# Altium schematic symbol library Schlib1.SchLib: 27 symbols
Pins are listed as number, name and electrical type; pins without a type are passive.

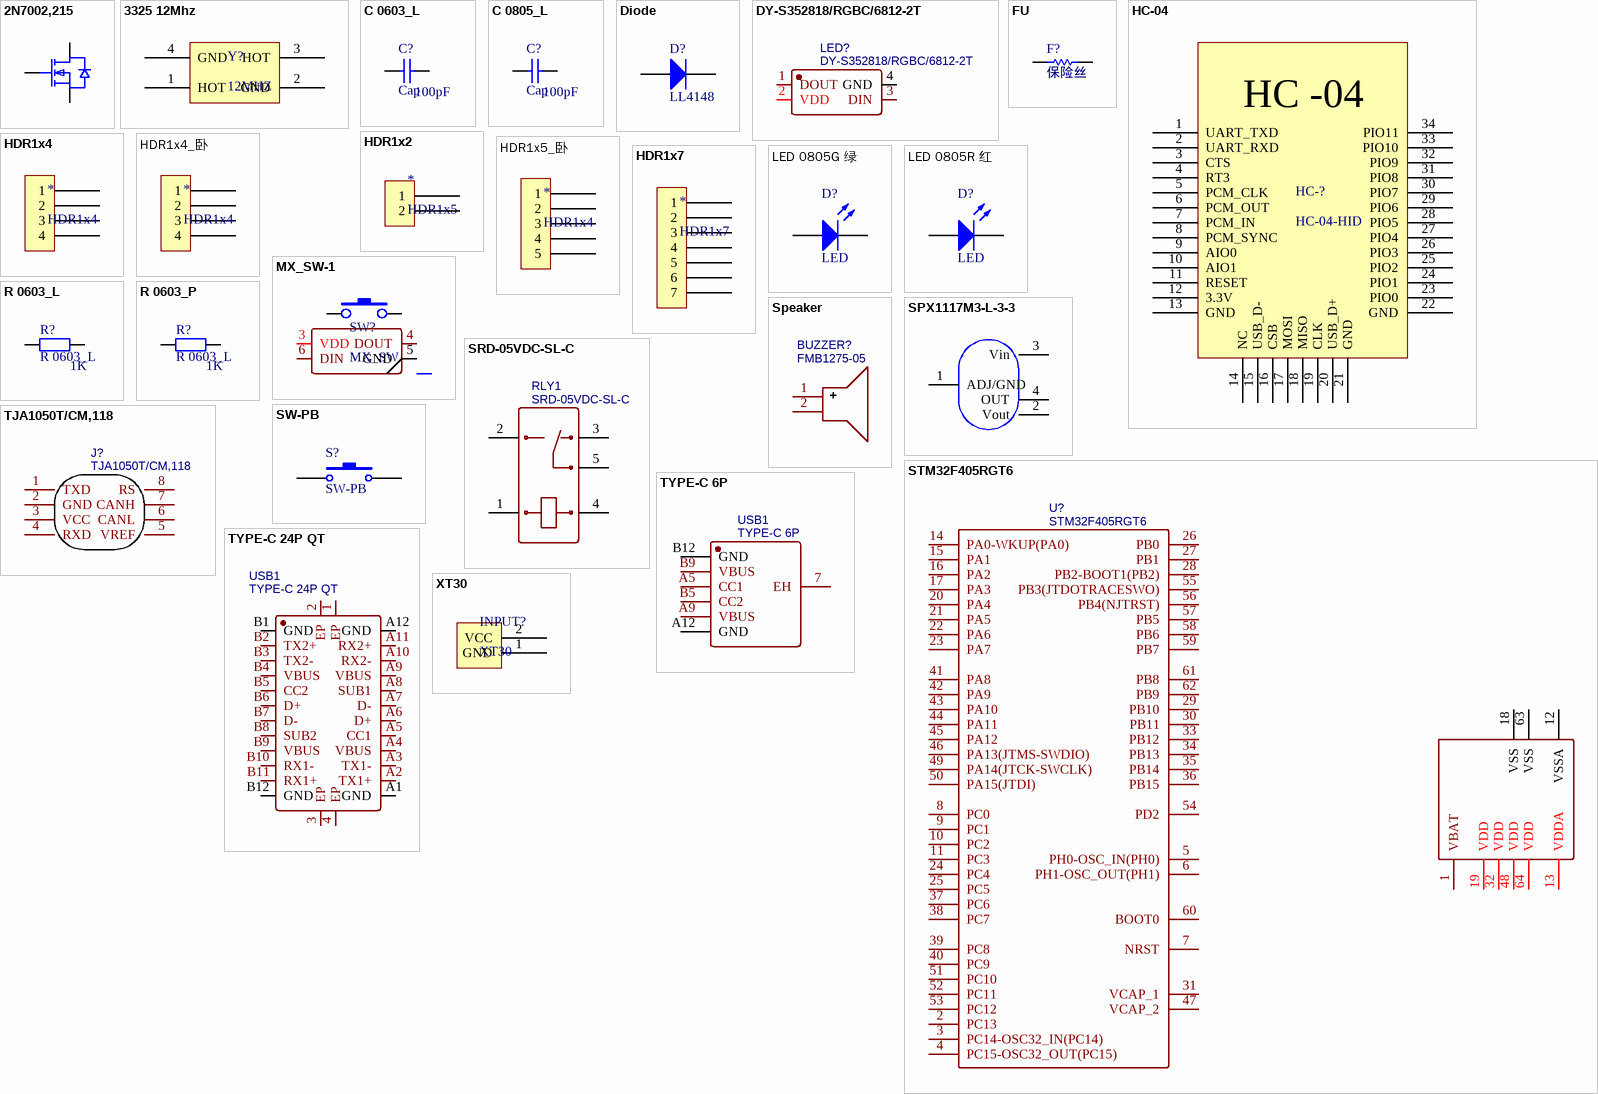
[diagram p0: symbols 2N7002,215 to XT30]

## 2N7002,215
designator Q?
Manufacturer: Nexperia(安世); Symbol: 2N7002,215; Add into BOM: yes; Type: N沟道; Drain Source Voltage (Vdss): 60V; Continuous Drain Current (Id): 300mA; Power Dissipation (Pd): 830mW; Drain Source On Resistance (RDS(on)@Vgs,Id): 5Ω@10V,500mA; Gate Threshold Voltage (Vgs(th)@Id): 2.5V@250A; Device: 2N7002,215; LCSC Part Name: N沟道 60V 300mA; Supplier Part: C65189; Manufacturer Part: 2N7002,215; Supplier Footprint: SOT-23(SOT-23-3); JLCPCB Part Class: Extended Part; Datasheet: https://atta.szlcsc.com/upload/public/pdf/source/20170103/1483439882638.pdf; Supplier: LCSC; Convert to PCB: yes
footprint AO3400A (SOT-23_L2.9-W1.3-P1.90-LS2.4-BR)
pins: 1 G, 2 S, 3 D

## 3325 12Mhz
designator Y?, comment 12MHZ
3325 12MHZ 无源晶振
footprint SMD-3225_4P
pins: 1 HOT, 2 GND, 3 HOT, 4 GND

## C 0603_L
designator C?, comment Cap  value 100pF
Capacitor; Published: 8-Jun-2000; LatestRevisionDate: 17-Jul-2002; LatestRevisionNote: Re-released for DXP Platform.; PackageReference: RAD-0.3; Publisher: Altium Limited; PackageDescription: Radial Cap, Thru-Hole; 2 Leads; 0.3 in Pin Spacing
footprint C 0603_L (无极性贴片电容                                       淘宝ID:黄晶宝石)
pins: 1, 2

## C 0805_L
designator C?, comment Cap  value 100pF
Capacitor; Published: 8-Jun-2000; LatestRevisionDate: 17-Jul-2002; LatestRevisionNote: Re-released for DXP Platform.; PackageReference: RAD-0.3; Publisher: Altium Limited; PackageDescription: Radial Cap, Thru-Hole; 2 Leads; 0.3 in Pin Spacing
footprint C 0805_L (无极性贴片电容                                        淘宝ID:黄晶宝石)
pins: 1, 2

## Diode
designator D?, comment LL4148
Default Diode; Published: 8-Jun-2000; LatestRevisionDate: 17-Jul-2002; LatestRevisionNote: Re-released for DXP Platform.; PackageVersion: Sep-1996; PackageReference: SMC; Publisher: Altium Limited; PackageDescription: DO-214-AB/SMC; 2 C-Bend Leads; Body 7.9 x 5.9 mm, inc. leads (LxW); Code_JEDEC: DO-214-AB
footprint LL-34_L3.7-W1.6-RD
pins: 1 A, 2 K

## DY-S352818/RGBC/6812-2T
designator LED?
BOM_Manufacturer: TONYU; Contributor: LCSC; BOM_Supplier: LCSC; BOM_Supplier Part: C524051; BOM_Manufacturer Part: DY-S352818/RGBC/6812-2T; BOM_JLCPCB Part Class: Extended Part; spicePre: L; spiceSymbolName: DY-S352818/RGBC/6812-2T
footprint LED3528
pins: 1 DOUT, 2 VDD, 3 DIN, 4 GND

## FU
designator F?, comment 保险丝
Published: 8-Jun-2000; LatestRevisionDate: 17-Jul-2002; LatestRevisionNote: Re-released for DXP Platform.; PackageReference: AXIAL-0.3; Publisher: Altium Limited; PackageDescription: Axial Device, Thru-Hole; 2 Leads; 0.3 in Pin Spacing
footprint FU 1206 (贴片保险丝)
pins: 1, 2

## HC-04
designator HC-?, comment HC-04-HID
footprint HC-04 (串口蓝牙模块)
pins: 1 UART_TXD, 2 UART_RXD, 3 CTS, 4 RT3, 5 PCM_CLK, 6 PCM_OUT, 7 PCM_IN, 8 PCM_SYNC, 9 AIO0, 10 AIO1, 11 RESET, 12 3.3V, 13 GND, 14 NC, 15 USB_D-, 16 CSB, 17 MOSI, 18 MISO, 19 CLK, 20 USB_D+, 21 GND, 22 GND, 23 PIO0, 24 PIO1, 25 PIO2, 26 PIO3, 27 PIO4, 28 PIO5, 29 PIO6, 30 PIO7, 31 PIO8, 32 PIO9, 33 PIO10, 34 PIO11
text: HC -04

## HDR1x2
designator *, comment HDR1x5
footprint GH1.25-立贴-2P
pins: 1, 2

## HDR1x4
designator *
footprint GH1.25-立贴-4P
pins: 1, 2, 3, 4

## HDR1x4_卧
designator *, comment HDR1x4
footprint MX 1.25-WS-4P (长：10.15mm，宽：4.2mm，高：3.4mm)
pins: 1, 2, 3, 4

## HDR1x5_卧
designator *, comment HDR1x4
footprint MX 1.25-WS-5P (长：11.4mm，宽：4.2mm，高：3.4mm)
pins: 1, 2, 3, 4, 5

## HDR1x7
designator *
footprint GH1.25-立贴-7P
pins: 1, 2, 3, 4, 5, 6, 7

## LED 0805G 绿
designator D?, comment LED
Typical INFRARED GaAs LED; Published: 8-Jun-2000; LatestRevisionDate: 08-Jul-2005; LatestRevisionNote: Mech Layer 1 removed.; PackageReference: LED-0; Publisher: Altium Limited; PackageDescription: LED; 2 Leads
footprint LED 0805G (绿色0805LED                              淘宝ID:黄晶宝石)
pins: 1 A, 2 K

## LED 0805R 红
designator D?, comment LED
Typical INFRARED GaAs LED; Published: 8-Jun-2000; LatestRevisionDate: 08-Jul-2005; LatestRevisionNote: Mech Layer 1 removed.; PackageReference: LED-0; Publisher: Altium Limited; PackageDescription: LED; 2 Leads
footprint LED 0805R (红色0805LED                                       淘宝ID:黄晶宝石)
pins: 1 A, 2 K

## MX_SW-1
designator SW?, comment MX_SW
footprint MX_SW-1 (with Fixation pins  1-Pole w/Diode)
pins: 1, 2, 3 VDD, 4 DOUT, 5 GND, 6 DIN

## R 0603_L
designator R?  value 1K
Resistor; Published: 8-Jun-2000; LatestRevisionDate: 17-Jul-2002; LatestRevisionNote: Re-released for DXP Platform.; PackageReference: AXIAL-0.4; Publisher: Altium Limited; PackageDescription: Axial Device, Thru-Hole; 2 Leads; 0.4 in Pin Spacing
footprint R 0603_L (1/10W贴片电阻                 淘宝ID:黄晶宝石)
pins: 1, 2

## R 0603_P
designator R?, comment R 0603_L  value 1K
Resistor; Published: 8-Jun-2000; LatestRevisionDate: 17-Jul-2002; LatestRevisionNote: Re-released for DXP Platform.; PackageReference: AXIAL-0.4; Publisher: Altium Limited; PackageDescription: Axial Device, Thru-Hole; 2 Leads; 0.4 in Pin Spacing
footprint 0603P
pins: 1, 2

## Speaker
designator BUZZER?, comment FMB1275-05
BOM_Manufacturer: FUET; Contributor: LCSC; Frequency: 2300Hz; BOM_Supplier: LCSC; BOM_Supplier Part: C482357; BOM_Manufacturer Part: FMB1275-05; BOM_JLCPCB Part Class: Extended Part; spicePre: B; spiceSymbolName: FMB1275-05
footprint Speaker
pins: 1 +, 2 -

## SPX1117M3-L-3-3
designator U?
Manufacturer: UTC(友顺); Symbol: LM317G-AA3-R; Add into BOM: yes; Output Type: 可调; Output Polarity: 正; Number of Outputs: 1; Maximum Input Voltage: 40V; Output Voltage: 1.3V~37V; Dropout Voltage: 5V@(10mA); Output Current: 1A; Device: LM317G-AA3-R; LCSC Part Name: Vin=40V Vout=1.3V~37V 1A; Supplier Part: C19651; Manufacturer Part: LM317G-AA3-R; Supplier Footprint: SOT-223; JLCPCB Part Class: Extended Part; Datasheet: https://atta.szlcsc.com/upload/public/pdf/source/20160416/1460799387250.pdf; Supplier: LCSC; Convert to PCB: yes
footprint SPX1117M3-L-3-3/TR (SOT-223-3_L6.5-W3.4-P2.30-LS7.0-BR)
pins: 1 ADJ/GND, 2 Vout, 3 Vin, 4 OUT

## SRD-05VDC-SL-C
designator RLY1
BOM_Manufacturer: SONGLE; BOM_Supplier: LCSC; BOM_Manufacturer Part: SRD-05VDC-SL-C; BOM_Supplier Part: C35449; BOM_JLCPCB Part Class: Extended Part; spicePre: R; spiceSymbolName: SRD-05VDC-SL-C
footprint SRD-05VDC-SL-C
pins: 1, 2, 3, 4, 5

## STM32F405RGT6
designator U?
BOM_Manufacturer: ST; subpart_no: 1; tags: STM32; BOM_Supplier Part: C15742; BOM_Supplier: LCSC; BOM_Manufacturer Part: STM32F405RGT6; image: http://image.lceda.cn/szlcsc/C15742.jpg; BOM_JLCPCB Part Class: Extended Part; spicePre: U; spiceSymbolName: STM32F405RGT6
footprint STM32F405RGT6 (LQFP-64_L10.0-W10.0-P0.50-LS12.0-BL)
pins: 1 VBAT, 2 PC13, 3 PC14-OSC32_IN(PC14), 4 PC15-OSC32_OUT(PC15), 5 PH0-OSC_IN(PH0), 6 PH1-OSC_OUT(PH1), 7 NRST, 8 PC0, 9 PC1, 10 PC2, 11 PC3, 12 VSSA, 13 VDDA, 14 PA0-WKUP(PA0), 15 PA1, 16 PA2, 17 PA3, 18 VSS, 19 VDD, 20 PA4, 21 PA5, 22 PA6, 23 PA7, 24 PC4, 25 PC5, 26 PB0, 27 PB1, 28 PB2-BOOT1(PB2), 29 PB10, 30 PB11, 31 VCAP_1, 32 VDD, 33 PB12, 34 PB13, 35 PB14, 36 PB15, 37 PC6, 38 PC7, 39 PC8, 40 PC9, 41 PA8, 42 PA9, 43 PA10, 44 PA11, 45 PA12, 46 PA13(JTMS-SWDIO), 47 VCAP_2, 48 VDD, 49 PA14(JTCK-SWCLK), 50 PA15(JTDI), 51 PC10, 52 PC11, 53 PC12, 54 PD2, 55 PB3(JTDOTRACESWO), 56 PB4(NJTRST), 57 PB5, 58 PB6, 59 PB7, 60 BOOT0, 61 PB8, 62 PB9, 63 VSS, 64 VDD

## SW-PB
designator S?
Switch; Published: 24-Mar-1999; LatestRevisionDate: 17-Jul-2002; LatestRevisionNote: Re-released for DXP Platform.; PackageReference: SPST-2; Publisher: Altium Limited; PackageDescription: Switch; 2 Leads
footprint SMD-3.2*4.2
pins: 1, 2

## TJA1050T/CM,118
designator J?
BOM_Manufacturer: NXP; BOM_Supplier: LCSC; BOM_Manufacturer Part: TJA1050T/CM,118; BOM_Supplier Part: C6952; BOM_JLCPCB Part Class: Basic Part; spicePre: U; spiceSymbolName: TJA1050T/CM,118
footprint SOIC-8_150MIL
pins: 1 TXD, 2 GND, 3 VCC, 4 RXD, 5 VREF, 6 CANL, 7 CANH, 8 RS

## TYPE-C 6P
designator USB1
BOM_Manufacturer: SHOU HAN; Contributor: LCSC; BOM_Supplier: LCSC; BOM_Supplier Part: C456012; BOM_Manufacturer Part: TYPE-C 6P; BOM_JLCPCB Part Class: Extended Part; spicePre: U; spiceSymbolName: TYPE-C 6P
footprint TYPE-C-SMD_TYPE-C-6P
pins: 7 EH, A5 CC1, A9 VBUS, A12 GND, B5 CC2, B9 VBUS, B12 GND

## TYPE-C 24P QT
designator USB1
BOM_Manufacturer: SHOU HAN(首韩); Contributor: LCSC; BOM_Supplier: LCSC; BOM_Supplier Part: C2681555; BOM_Manufacturer Part: TYPE-C 24P QT; BOM_JLCPCB Part Class: Extended Part; spicePre: U; spiceSymbolName: TYPE-C 24P QT
footprint USB-C-SMD_TYPE-C-24P-QT
pins: 1 EP, 2 EP, 3 EP, 4 EP, A1 GND, A2 TX1+, A3 TX1-, A4 VBUS, A5 CC1, A6 D+, A7 D-, A8 SUB1, A9 VBUS, A10 RX2-, A11 RX2+, A12 GND, B1 GND, B2 TX2+, B3 TX2-, B4 VBUS, B5 CC2, B6 D+, B7 D-, B8 SUB2, B9 VBUS, B10 RX1-, B11 RX1+, B12 GND

## XT30
designator INPUT?
footprint XT30PW-M
pins: 1 GND, 2 VCC